# Altium footprint library Active-LED.PcbLib: 43 footprints (part 1 of 3)
Each footprint in its own frame and in the unit in brackets; x right, y up, seen from the top. Pads: shape width x height; smd on the part's side, far side on the other; paste and mask are expansions set on the pad; w line width, h text height; cw(c..) or ccw(c..) is an arc to the next point about the centre after c.
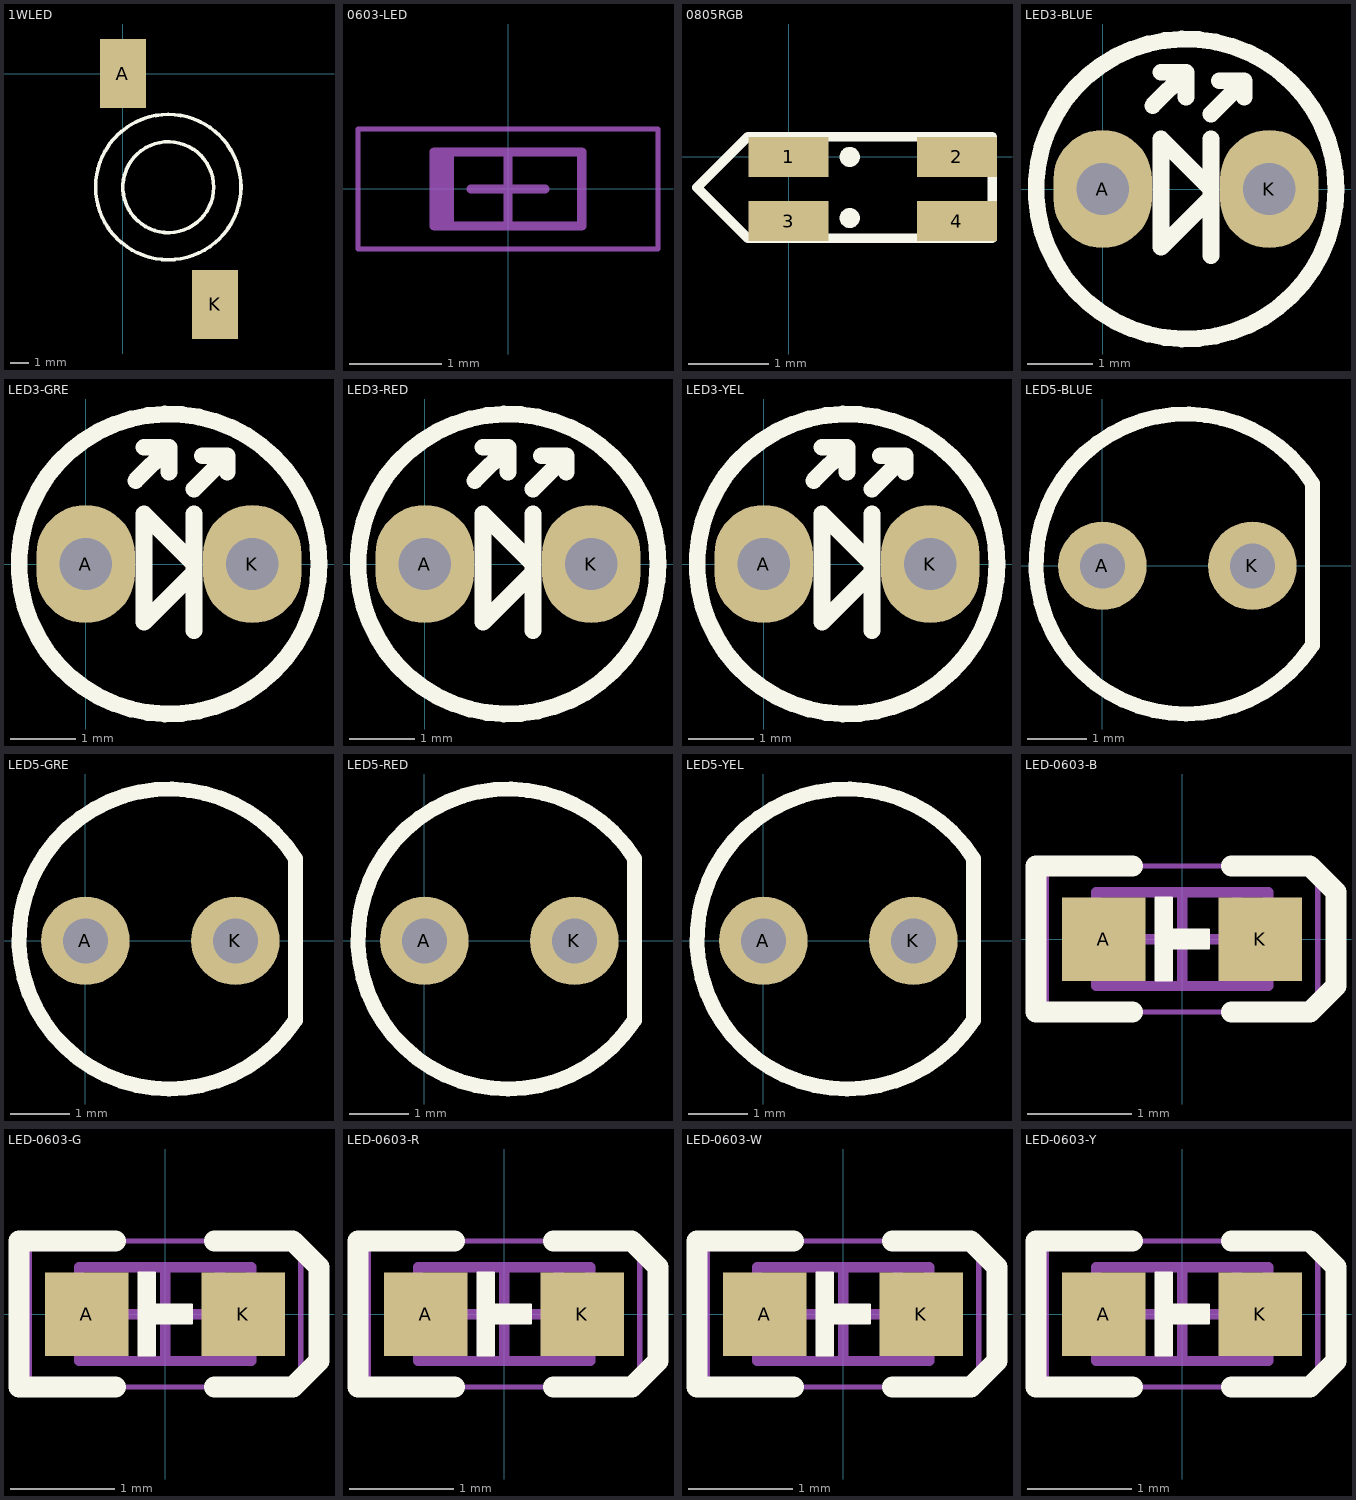
[diagram p0: the footprints below, top view; thin cyan lines are the x and y axes]

## 1WLED [mm]
pads (2):
  rect 2.54x3.81 smd: A(0,0) K(5.08,-12.7)
Top Overlay:
  circle w0.2: c2.5,-6.242 r4
  circle w0.2: c2.5,-6.25 r2.5
3D body: height 0.5, standoff 0.25, extent -1,-1.5 1,1.5
3D body: height 0.5, standoff 0.25, extent 4,-14.25 6,-11
3D body: height 5.55, standoff 0.55, extent 0.026,-8.729 5,-3.75
3D body: height 3.25, standoff 0.25, extent -1.468,-10.234 6.5,-2.25
3D body: height 0.89, standoff 0.25, extent 4,-11 6,-8
3D body: height 0.89, standoff 0.25, extent -1,-5.25 1,-1.5

## 0603-LED [mm] "Molded Diode, 2-Leads, Body 1.60x0.80mm, IPC Medium Density"
height 0.4
Top Courtyard:
  lines w0.05: -1.625,-0.65 -1.625,0.65 1.625,0.65 1.625,-0.65 -1.625,-0.65
  lines w0.1: -0.4,0 0.4,0 ; 0,-0.4 0,0.4
Top Assembly (Mech20):
  rectangle: -0.8,-0.4 -0.585,0.4
  lines w0.1: -0.8,-0.4 -0.8,0.4 0.8,0.4 0.8,-0.4 -0.8,-0.4

## 0805RGB [mm]
height 10
pads (4):
  rect 1x0.5 smd: 1(0,0) 2(2.1,0) 3(0,-0.8) 4(2.1,-0.8)
Top Overlay:
  circle w0.254: c0.762,0 r0
  circle w0.254: c0.762,-0.762 r0
  lines w0.12: -1.143,-0.381 -0.508,0.254 0,0.254 2.032,0.254 2.54,0.254 2.54,-1.016 2.032,-1.016 0,-1.016 -0.508,-1.016 -1.143,-0.381

## LED3-BLUE [mm]
pads (2):
  oval 1.5x1.8 hole 0.8: A(0,0) K(2.54,0)
Top Overlay:
  circle w0.254: c1.27,0 r2.286
  lines w0.254: 0.762,1.27 1.27,1.778 ; 0.889,1.778 1.27,1.778 ; 1.27,1.397 1.27,1.778 ; 1.651,-1.016 1.651,0.762 ; 1.651,1.143 2.159,1.651 ; 1.778,1.651 2.159,1.651 ; 2.159,1.397 2.159,1.651 ; 0.889,-0.889 0.889,0.762 1.651,0 1.651,-0.127 0.889,-0.889
3D body "LED3_BLUE.STEP": height 5.2, standoff -2, extent -0.73,-1.998 2.79,1.998

## LED3-GRE [mm]
pads (2):
  oval 1.5x1.8 hole 0.8: A(0,0) K(2.54,0)
Top Overlay:
  circle w0.254: c1.27,0 r2.286
  lines w0.254: 0.762,1.27 1.27,1.778 ; 0.889,1.778 1.27,1.778 ; 1.27,1.397 1.27,1.778 ; 1.651,-1.016 1.651,0.762 ; 1.651,1.143 2.159,1.651 ; 1.778,1.651 2.159,1.651 ; 2.159,1.397 2.159,1.651 ; 0.889,-0.889 0.889,0.762 1.651,0 1.651,-0.127 0.889,-0.889
3D body "LED3_GRE.STEP": height 5.2, standoff -2, extent -0.74,-2.003 2.78,1.993

## LED3-RED [mm]
pads (2):
  oval 1.5x1.8 hole 0.8: A(0,0) K(2.54,0)
Top Overlay:
  circle w0.254: c1.27,0 r2.286
  lines w0.254: 0.762,1.27 1.27,1.778 ; 0.889,1.778 1.27,1.778 ; 1.27,1.397 1.27,1.778 ; 1.651,-1.016 1.651,0.762 ; 1.651,1.143 2.159,1.651 ; 1.778,1.651 2.159,1.651 ; 2.159,1.397 2.159,1.651 ; 0.889,-0.889 1.651,-0.127 1.651,0 0.889,0.762 0.889,-0.889
3D body "LED3_RED.STEP": height 5.2, standoff -2, extent -0.74,-2.003 2.78,1.993

## LED3-YEL [mm]
pads (2):
  oval 1.5x1.8 hole 0.8: A(0,0) K(2.54,0)
Top Overlay:
  circle w0.254: c1.27,0 r2.286
  lines w0.254: 0.762,1.27 1.27,1.778 ; 0.889,1.778 1.27,1.778 ; 1.27,1.397 1.27,1.778 ; 1.651,-1.016 1.651,0.762 ; 1.651,1.143 2.159,1.651 ; 1.778,1.651 2.159,1.651 ; 2.159,1.397 2.159,1.651 ; 0.889,-0.889 1.651,-0.127 1.651,0 0.889,0.762 0.889,-0.889
3D body "LED3_YEL.STEP": height 5.2, standoff -2, extent -0.373,-1.91 3.147,2.086

## LED5-BLUE [mm]
pads (2):
  round 1.5 hole 0.762: A(0,0) K(2.54,0)
Top Overlay:
  lines w0.254: 3.528,-1.378 cw(c1.415,0.031) 3.556,1.397 3.556,-1.35
3D body "LED5_BLUE.STEP": height 8.6, standoff -2, extent -1.58,-2.85 3.77,2.85

## LED5-GRE [mm]
pads (2):
  round 1.5 hole 0.762: A(0,0) K(2.54,0)
Top Overlay:
  lines w0.254: 3.528,-1.378 cw(c1.415,0.031) 3.556,1.397 3.556,-1.35
3D body "LED5_GRE.STEP": height 8.6, standoff -2, extent -1.58,-2.85 3.77,2.85

## LED5-RED [mm]
pads (2):
  round 1.5 hole 0.762: A(0,0) K(2.54,0)
Top Overlay:
  lines w0.254: 3.528,-1.378 cw(c1.415,0.031) 3.556,1.397 3.556,-1.35
3D body "LED5_RED.STEP": height 8.6, standoff -2, extent -1.58,-2.85 3.77,2.85

## LED5-YEL [mm]
pads (2):
  round 1.5 hole 0.762: A(0,0) K(2.54,0)
Top Overlay:
  lines w0.254: 3.528,-1.378 cw(c1.415,0.031) 3.556,1.397 3.556,-1.35
3D body "LED5_YEL.STEP": height 8.6, standoff -2, extent -1.58,-2.85 3.77,2.85

## LED-0603-B [mm] "EVERLIGHT(亿光) - 19-217/BHC-ZL1M2RY/3T - C72041"
height 0.45
pads (2):
  rect 0.8x0.8 smd: A(-0.75,0) K(0.75,0)
Top Overlay:
  region: -0.253,0.395 -0.1,0.395 -0.1,0.09 0.255,0.09 0.255,-0.087 -0.1,-0.087 -0.1,-0.392 -0.253,-0.392
  lines w0.025: -0.253,-0.392 -0.1,-0.392 -0.1,-0.087 0.255,-0.087 0.255,0.09 -0.1,0.09 -0.1,0.395 -0.253,0.395 -0.253,-0.392
  lines w0.2: -0.475,-0.7 -1.4,-0.7 -1.4,0.7 -0.475,0.7 ; 0.475,-0.7 1.225,-0.7 1.475,-0.45 1.475,0.45 1.224,0.701 0.475,0.701
Top Value:
  text "'.Comment'" at -1.315,-0.27 h1
Top Designator:
  text "'.Designator'" at -3.426,-0.251 h1.2
Top Courtyard:
  lines w0.05: -1.3,-0.7 1.3,-0.7 1.3,0.7 -1.3,0.7 -1.3,-0.7
  lines w0.1: -0.45,0 0.45,0 ; 0,-0.45 0,0.45
Top Assembly (Mech20):
  lines w0.1: 0.525,-0.45 0.525,0.45 ; -0.825,-0.45 0.825,-0.45 0.825,0.45 -0.825,0.45 -0.825,-0.45
3D body "18.STEP": height 0.61, standoff 0, extent -0.8,-0.4 0.8,0.402

## LED-0603-G [mm] "EVERLIGHT(亿光) - 19-217/GHC-YR1S2/3T - C72043"
height 0.45
pads (2):
  rect 0.8x0.8 smd: A(-0.75,0) K(0.75,0)
Top Overlay:
  region: -0.253,0.395 -0.1,0.395 -0.1,0.09 0.255,0.09 0.255,-0.087 -0.1,-0.087 -0.1,-0.392 -0.253,-0.392
  lines w0.025: -0.253,-0.392 -0.253,0.395 -0.1,0.395 -0.1,0.09 0.255,0.09 0.255,-0.087 -0.1,-0.087 -0.1,-0.392 -0.253,-0.392
  lines w0.2: -0.475,-0.7 -1.4,-0.7 -1.4,0.7 -0.475,0.7 ; 0.475,-0.7 1.225,-0.7 1.475,-0.45 1.475,0.45 1.224,0.701 0.475,0.701
Top Value:
  text "'.Comment'" at -1.315,-0.27 h1
Top Designator:
  text "'.Designator'" at -3.426,-0.251 h1.2
Top Courtyard:
  lines w0.05: -1.3,-0.7 -1.3,0.7 1.3,0.7 1.3,-0.7 -1.3,-0.7
  lines w0.1: -0.45,0 0.45,0 ; 0,-0.45 0,0.45
Top Assembly (Mech20):
  lines w0.1: 0.525,-0.45 0.525,0.45 ; -0.825,-0.45 -0.825,0.45 0.825,0.45 0.825,-0.45 -0.825,-0.45
3D body "17.STEP": height 0.61, standoff 0, extent -0.8,-0.4 0.8,0.402

## LED-0603-R [mm] "KENTO - KT-0603R - C2286"
height 0.45
pads (2):
  rect 0.8x0.8 smd: A(-0.75,0) K(0.75,0)
Top Overlay:
  region: -0.253,0.395 -0.1,0.395 -0.1,0.09 0.255,0.09 0.255,-0.087 -0.1,-0.087 -0.1,-0.392 -0.253,-0.392
  lines w0.025: -0.253,-0.392 -0.1,-0.392 -0.1,-0.087 0.255,-0.087 0.255,0.09 -0.1,0.09 -0.1,0.395 -0.253,0.395 -0.253,-0.392
  lines w0.2: -0.475,-0.7 -1.4,-0.7 -1.4,0.7 -0.475,0.7 ; 0.475,-0.7 1.225,-0.7 1.475,-0.45 1.475,0.45 1.224,0.701 0.475,0.701
Top Value:
  text "'.Comment'" at -1.315,-0.27 h1
Top Designator:
  text "'.Designator'" at -3.426,-0.251 h1.2
Top Courtyard:
  lines w0.05: -1.3,-0.7 1.3,-0.7 1.3,0.7 -1.3,0.7 -1.3,-0.7
  lines w0.1: -0.45,0 0.45,0 ; 0,-0.45 0,0.45
Top Assembly (Mech20):
  lines w0.1: 0.525,-0.45 0.525,0.45 ; -0.825,-0.45 0.825,-0.45 0.825,0.45 -0.825,0.45 -0.825,-0.45
3D body "16.STEP": height 0.61, standoff 0, extent -0.762,-0.401 0.838,0.401

## LED-0603-W [mm] "Chip KENTO - KT-0603W - C2290"
height 0.45
pads (2):
  rect 0.8x0.8 smd: A(-0.75,0) K(0.75,0)
Top Overlay:
  region: -0.253,0.395 -0.1,0.395 -0.1,0.09 0.255,0.09 0.255,-0.087 -0.1,-0.087 -0.1,-0.392 -0.253,-0.392
  lines w0.025: -0.253,-0.392 -0.1,-0.392 -0.1,-0.087 0.255,-0.087 0.255,0.09 -0.1,0.09 -0.1,0.395 -0.253,0.395 -0.253,-0.392
  lines w0.2: -0.475,-0.7 -1.4,-0.7 -1.4,0.7 -0.475,0.7 ; 0.475,-0.7 1.225,-0.7 1.475,-0.45 1.475,0.45 1.224,0.701 0.475,0.701
Top Value:
  text "'.Comment'" at -1.315,-0.27 h1
Top Designator:
  text "'.Designator'" at -3.426,-0.251 h1.2
Top Courtyard:
  lines w0.05: -1.3,-0.7 1.3,-0.7 1.3,0.7 -1.3,0.7 -1.3,-0.7
  lines w0.1: -0.45,0 0.45,0 ; 0,-0.45 0,0.45
Top Assembly (Mech20):
  lines w0.1: 0.525,-0.45 0.525,0.45 ; -0.825,-0.45 0.825,-0.45 0.825,0.45 -0.825,0.45 -0.825,-0.45
3D body "15.STEP": height 0.61, standoff 0, extent -0.8,-0.4 0.8,0.402

## LED-0603-Y [mm] "EVERLIGHT(亿光) - 19-213/Y2C-CQ2R2L/3T(CY)  - C72038"
height 0.45
pads (2):
  rect 0.8x0.8 smd: A(-0.75,0) K(0.75,0)
Top Overlay:
  region: -0.253,0.395 -0.1,0.395 -0.1,0.09 0.255,0.09 0.255,-0.087 -0.1,-0.087 -0.1,-0.392 -0.253,-0.392
  lines w0.025: -0.253,-0.392 -0.1,-0.392 -0.1,-0.087 0.255,-0.087 0.255,0.09 -0.1,0.09 -0.1,0.395 -0.253,0.395 -0.253,-0.392
  lines w0.2: -0.475,-0.7 -1.4,-0.7 -1.4,0.7 -0.475,0.7 ; 0.475,-0.7 1.225,-0.7 1.475,-0.45 1.475,0.45 1.224,0.701 0.475,0.701
Top Value:
  text "'.Comment'" at -1.315,-0.27 h1
Top Designator:
  text "'.Designator'" at -3.426,-0.251 h1.2
Top Courtyard:
  lines w0.05: -1.3,-0.7 1.3,-0.7 1.3,0.7 -1.3,0.7 -1.3,-0.7
  lines w0.1: -0.45,0 0.45,0 ; 0,-0.45 0,0.45
Top Assembly (Mech20):
  lines w0.1: 0.525,-0.45 0.525,0.45 ; -0.825,-0.45 0.825,-0.45 0.825,0.45 -0.825,0.45 -0.825,-0.45
3D body "14.STEP": height 0.61, standoff 0, extent -0.8,-0.394 0.8,0.415